# EAGLE library part CONN_06_SMD_NOHOLES (library jcole)
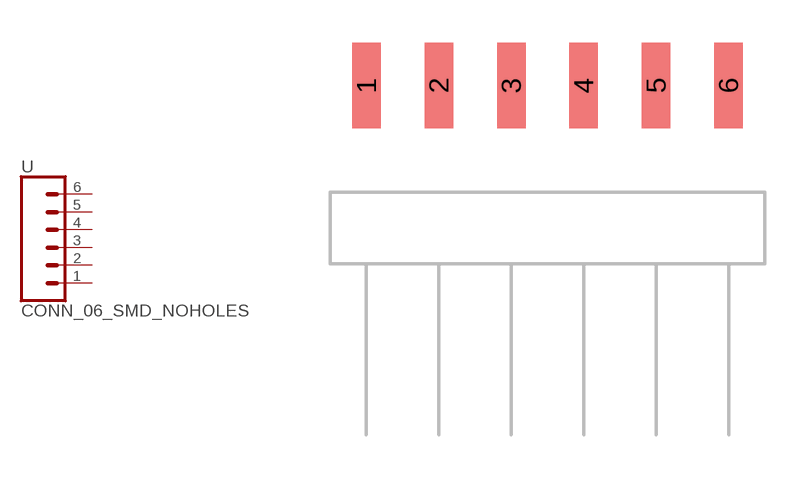
[diagram p10: symbol with the pads of 1X06-SMD_RA_MALE_NOHOLES; footprint 1X06-SMD_RA_MALE_NOHOLES]

Designator prefix -

## CONN_06_SMD_NOHOLES  [1X06-SMD_RA_MALE_NOHOLES]
1  1  pas
2  2  pas
3  3  pas
4  4  pas
5  5  pas
6  6  pas

## Footprint 1X06-SMD_RA_MALE_NOHOLES (pad centres in mm)
SMD - 6 Pin Right Angle Male Header tDocu layer shows pin locations. Specifications: Pin count:6 Pin pitch:0.1" Example device(s): CONN_06
smd 1 x 3: 1 -6.35,5; 2 -3.81,5; 3 -1.27,5; 4 1.27,5; 5 3.81,5; 6 6.35,5